# EAGLE library part CON_HE10_6P (library IUTV3)
CONNECTOR
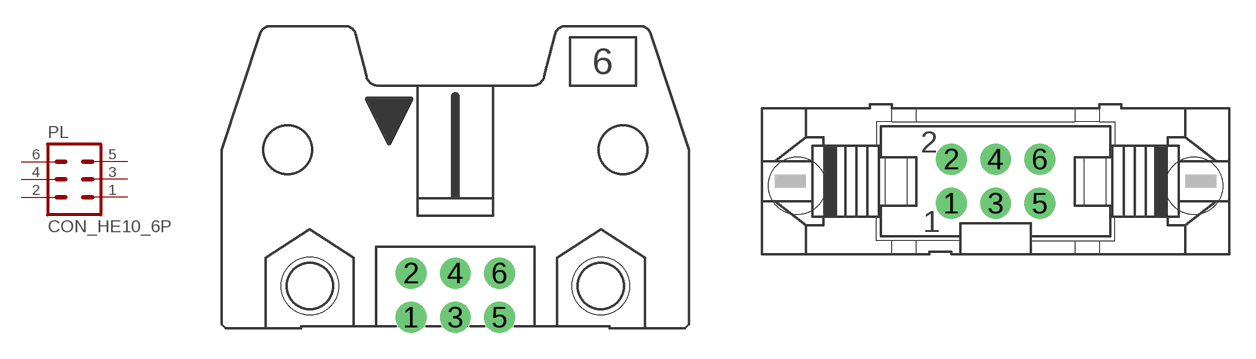
[diagram p41: symbol with the pads of 06H; footprints 06H, 06V]

Designator prefix PL

## CON_HE10_6P (MF: AMPHENOL; MOT_CLES_FARNELL: Connecteur fil-à-carte,Embase 06p horizontal a verrouillage 2.54 mm; MOT_CLES_RADIOSPARE: Embases de circuit imprimé, horizontal a verrouillage 06p 2.54 mm; MPN: T816106A1S102CEU; OC_FARNELL: 2217526)  [06H]
1  1  pas
2  2  pas
3  3  pas
4  4  pas
5  5  pas
6  6  pas

## CON_HE10_6PV (MF: AMPHENOL; MOT_CLES: Connecteur fil-à-carte, Embase 06p a verrouillage Traversant 2.54 mm; MOT_CLES_RADIOSPARE: Embases de circuit imprimé, a verrouillage 06p 2.54 mm; MPN: T816106A1R101CEU; OC_FARNELL: 2215273)  [06V]
Pads as for 06H

## CON_HE10_6PT (MF: HARWIN; MOT_CLES_FARNELL: Connecteur fil-à-carte,Embase 10p 2.54 mm; MOT_CLES_RADIOSPARE: Embases de circuit imprimé, Vertical Traversant 10p 2.54 mm; MPN: M20-9980346; OC_FARNELL: 1022231; OC_RADIOSPARE: 745-7046)  [MA03-2]
Pads as for 06H

## CON_HE10_6PR (MF: AMPHENOL; MOT_CLES_FARNELL: Connecteur fil-à-carte, Vertical Traversant Embase 06p 2.54 mm; MOT_CLES_RADIOSPARE: Embases de circuit imprimé Vertical Traversant 06p 2.54 mm; MPN: T821106A1S100CEU; OC_FARNELL: 2215302)  [ML6]
Pads as for 06H

## CON_HE10_6PE (MF: AMPHENOL; MOT_CLES_FARNELL: Connecteur fil-à-carte, Horizontal Traversant Embase 06p 2.54 mm; MOT_CLES_RADIOSPARE: Embases de circuit imprimé Vertical Traversant 06p 2.54 mm; MPN: T821106A1R100CEU; OC_FARNELL: 2215288)  [ML6L]
Pads as for 06H

## Footprint 06H (pad centres in mm)
CONNECTOR
drill 1 pad 1.778: 1 -2.54,-1.27; 2 -2.54,1.27; 3 0,-1.27; 4 0,1.27; 5 2.54,-1.27; 6 2.54,1.27
hole 3.302 at -8.382,0.533
hole 3.302 at 8.382,0.533

## Footprint 06V (pad centres in mm)
CONNECTOR
drill 1 pad 1.778: 1 -2.54,-1.27; 2 -2.54,1.27; 3 0,-1.27; 4 0,1.27; 5 2.54,-1.27; 6 2.54,1.27
hole 3.302 at 11.43,-0.254
hole 3.302 at -11.43,-0.254

## Footprint MA03-2 (pad centres in mm)
PIN HEADER
drill 1 pad 1.778: 1 -2.54,-1.27; 2 -2.54,1.27; 3 0,-1.27; 4 0,1.27; 5 2.54,-1.27; 6 2.54,1.27

## Footprint ML6 (pad centres in mm)
HARTING
drill 1 pad 1.778: 1 -2.54,-1.27; 2 -2.54,1.27; 3 0,-1.27; 4 0,1.27; 5 2.54,-1.27; 6 2.54,1.27

## Footprint ML6L (pad centres in mm)
HARTING
drill 1 pad 1.778: 1 -2.54,-1.27; 2 -2.54,1.27; 3 0,-1.27; 4 0,1.27; 5 2.54,-1.27; 6 2.54,1.27